# Altium schematic symbol library ADXRS450.SchLib: 2 symbols
Pins are listed as number, name and electrical type; pins without a type are passive.

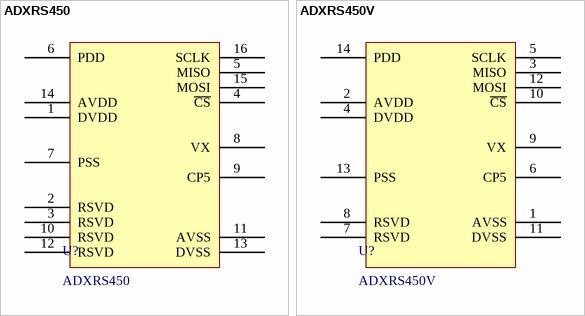
[diagram p0: symbols ADXRS450 to ADXRS450V]

## ADXRS450
designator U?
footprint SOIC127P1040X373-16N (SOIC, 16-Leads, Body 10.30x7.80mm, Pitch 1.27mm, IPC Medium Density)
pins: 1 DVDD, 2 RSVD, 3 RSVD, 4 ~{CS}, 5 MISO, 6 PDD, 7 PSS, 8 VX, 9 CP5, 10 RSVD, 11 AVSS, 12 RSVD, 13 DVSS, 14 AVDD, 15 MOSI, 16 SCLK

## ADXRS450V
designator U?
footprint LCC127P900X400X915-14N (LCC, 14-Pins, Body 9.00x4.00mmx9.15mm, Pitch 1.27mm, IPC Medium Density)
pins: 1 AVSS, 2 AVDD, 3 MISO, 4 DVDD, 5 SCLK, 6 CP5, 7 RSVD, 8 RSVD, 9 VX, 10 ~{CS}, 11 DVSS, 12 MOSI, 13 PSS, 14 PDD